# Altium footprint library Alt_git.PcbLib: 89 footprints (part 2 of 6)
Each footprint in its own frame and in the unit in brackets; x right, y up, seen from the top. Pads: shape width x height; smd on the part's side, far side on the other; paste and mask are expansions set on the pad; w line width, h text height; cw(c..) or ccw(c..) is an arc to the next point about the centre after c.
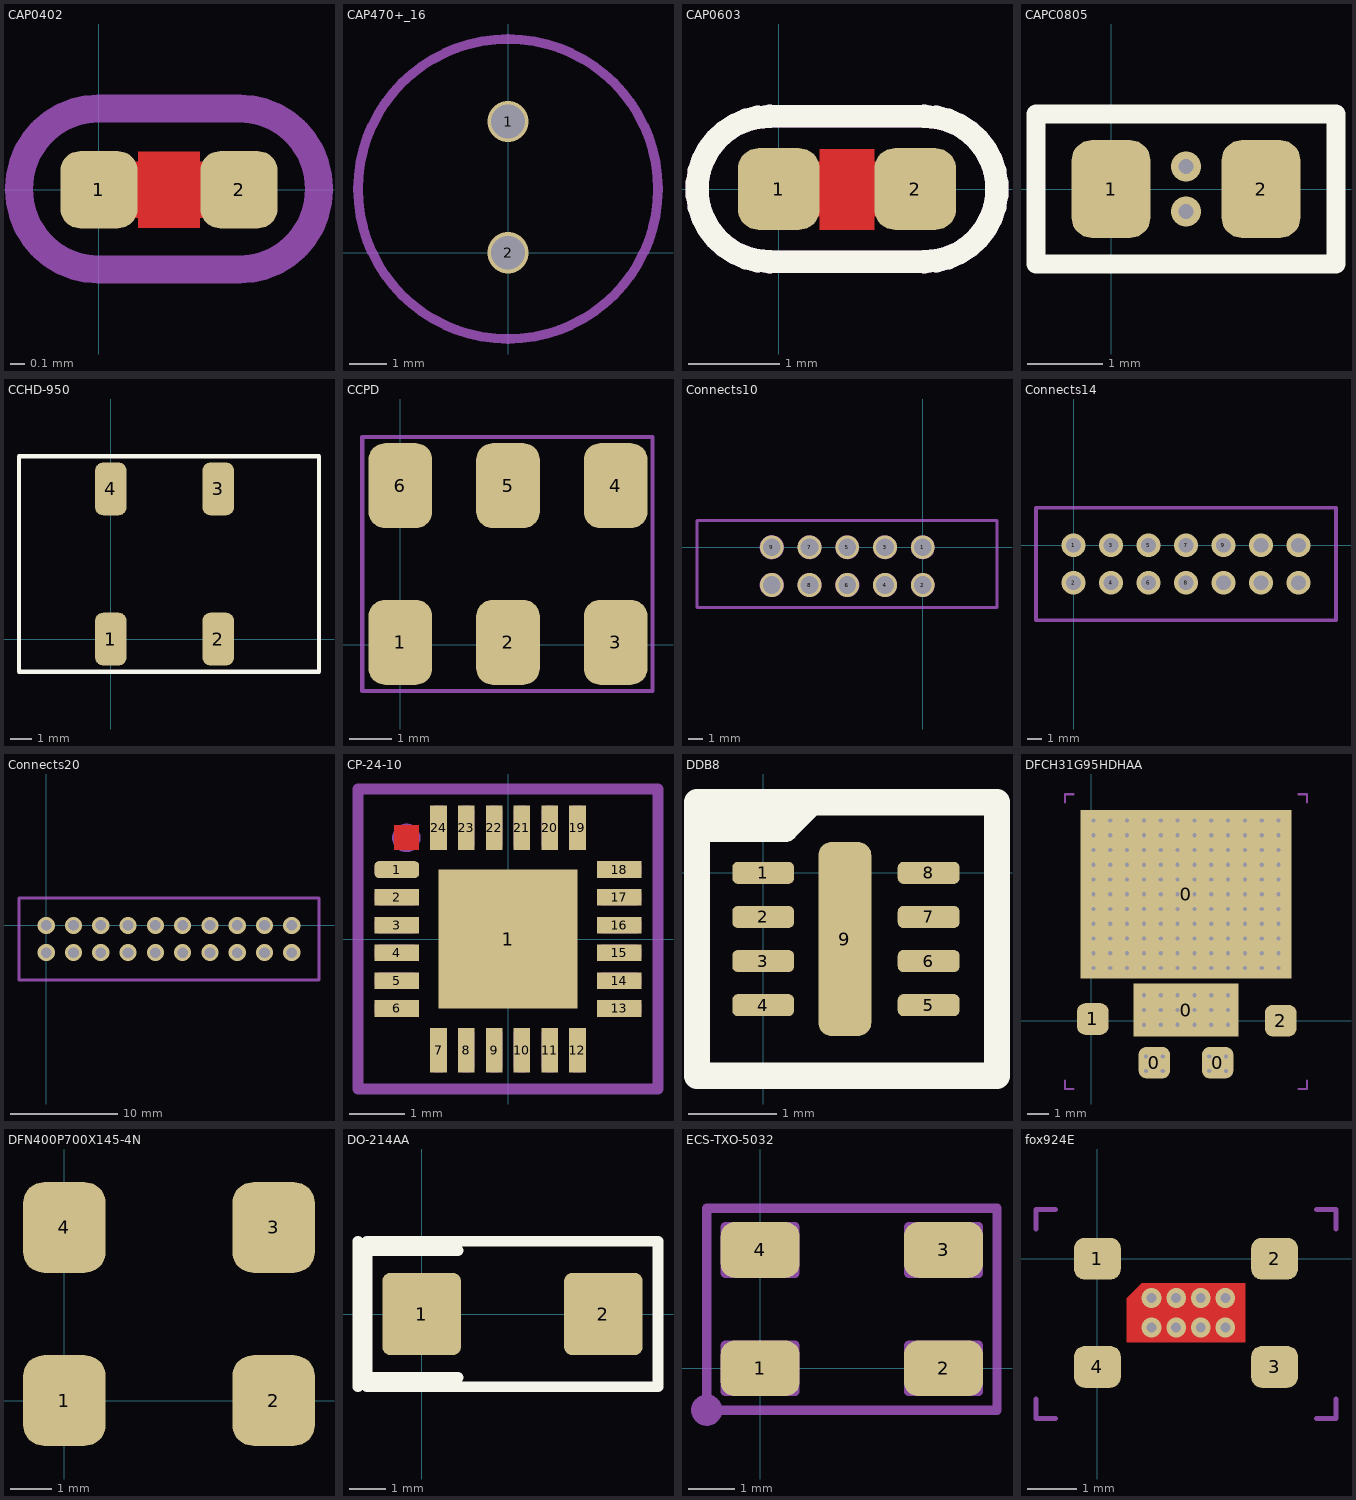
[diagram p1: the footprints below, top view; thin cyan lines are the x and y axes]

## CAP0402 [mm]
pads (2):
  rrect50% 0.55x0.55 smd paste+0: 1(0,0) 2(1,0)
Top Layer:
  pour cut-out: 0.85,0.2 0.13,0.2 0.13,-0.2 0.85,-0.2
  pour cut-out: 0.28,0.27 0.28,-0.27 0.72,-0.27 0.72,0.27
RES_top:
  lines w0.2: -0.57,0 ccw(c0,0) 0,-0.57 1,-0.57 ccw(c1,0) 1.57,0 ; -0.57,0.01 cw(c0,0.01) 0,0.58 1,0.58 cw(c1,0.01) 1.57,0.01

## CAP470+_16 [mm]
pads (2):
  rect 0.5x0.5 smd paste+0: 1(0,3.5) 2(0,0)
via 0,3.5 diameter 1.1 hole 0.9
via 0,0 diameter 1.1 hole 0.9
Mechanical 15:
  circle w0.254: c0,1.7 r4
3D body: height 9, standoff -1, extent -0.2,-2.161 14.55,5.841

## CAP0603 [mm]
pads (2):
  rrect50% 0.9x0.9 smd paste+0: 1(0,0) 2(1.5,0)
Top Layer:
  pour cut-out: 1.25,0.3 0.25,0.3 0.25,-0.3 1.25,-0.3
  pour cut-out: 0.45,0.44 0.45,-0.45 1.05,-0.45 1.05,0.44
Top Overlay:
  lines w0.25: -0.1,-0.8 1.6,-0.8 ; -0.1,0.8 1.6,0.8
  lines w0.254: -0.1,-0.8 cw(c-0.1,0) -0.1,0.8 ; 1.6,-0.8 ccw(c1.6,0) 1.6,0.8
CAP_top:
  lines w0.25: -0.1,-0.8 1.6,-0.8 ; -0.1,0.8 1.6,0.8
  lines w0.254: -0.1,-0.8 cw(c-0.1,0) -0.1,0.8 ; 1.6,-0.8 ccw(c1.6,0) 1.6,0.8

## CAPC0805 [mm]
pads (2):
  rrect50% 1.05x1.3 smd paste+0: 1(0,0) 2(2,0)
via 1,0.3 diameter 0.4 hole 0.2
via 1,-0.3 diameter 0.4 hole 0.2
Top Overlay:
  lines w0.254: -1,-1 -1,1 3,1 3,-1 -1,-1
3D body: height 1.7, standoff 0, extent -0.7,-0.9 2.7,0.9

## CCHD-950 [mm]
pads (4):
  rrect50% 1.5x2.5 smd: 1(0,0) 2(5.08,0) 3(5.08,7.11) 4(0,7.11)
Top Overlay:
  lines w0.2: -4.35,-1.55 -4.35,8.66 9.85,8.66 9.85,-1.55 -4.35,-1.55
3D body: height 5.4, standoff 0, extent -4.35,-1 9.85,8.14

## CCPD [mm]
pads (6):
  rrect50% 1.5x2 smd: 1(0,0.05) 2(2.54,0.05) 3(5.08,0.05) 4(5.08,3.75) 5(2.54,3.75) 6(0,3.75)
Mechanical 15:
  lines w0.1: -0.9,-1.1 5.95,-1.1 5.95,4.9 -0.9,4.9 -0.9,-1.1
3D body: height 2.2, standoff 0, extent -0.975,-0.6 6.025,4.4

## Connects10 [mm]
pads (10):
  rect 0.5x0.5 smd paste+0: 1(0,0) 2(0,-2.54) 3(-2.54,0) 4(-2.54,-2.54) 5(-5.08,0) 6(-5.08,-2.54) 7(-7.62,0) 8(-7.62,-2.54) 9(-10.16,0) 10(-10.16,-2.54)
via -10.16,0 diameter 1.6 hole 1.2
via -10.16,-2.54 diameter 1.6 hole 1.2
via -5.08,-2.54 diameter 1.6 hole 1.2
via -2.54,-2.54 diameter 1.6 hole 1.2
via 0,-2.54 diameter 1.6 hole 1.2
via -7.62,0 diameter 1.6 hole 1.2
via -7.62,-2.54 diameter 1.6 hole 1.2
via -2.54,0 diameter 1.6 hole 1.2
via -5.08,0 diameter 1.6 hole 1.2
via 0,0 diameter 1.6 hole 1.2
Top Paste:
  circle w0.2: c0,0 r0.7
  circle w0.2: c0,-2.54 r0.7
  circle w0.2: c-2.54,-2.54 r0.7
  circle w0.2: c-2.54,0 r0.7
  circle w0.2: c-5.08,0 r0.7
  circle w0.2: c-5.08,-2.54 r0.7
  circle w0.2: c-7.62,-2.54 r0.7
  circle w0.2: c-7.62,0 r0.7
  circle w0.2: c-10.16,0 r0.7
  circle w0.2: c-10.16,-2.54 r0.7
Bottom Paste:
  circle w0.2: c0,0 r0.7
  circle w0.2: c0,-2.54 r0.7
  circle w0.2: c-2.54,-2.54 r0.7
  circle w0.2: c-2.54,0 r0.7
  circle w0.2: c-5.08,0 r0.7
  circle w0.2: c-5.08,-2.54 r0.7
  circle w0.2: c-7.62,-2.54 r0.7
  circle w0.2: c-7.62,0 r0.7
  circle w0.2: c-10.16,0 r0.7
  circle w0.2: c-10.16,-2.54 r0.7
Connect:
  circle w0.254: c-7.62,-2.54 r0.68
  circle w0.254: c-5.08,-2.54 r0.69
  circle w0.254: c-2.54,-2.54 r0.69
  circle w0.254: c0,-2.54 r0.68
  circle w0.254: c-10.16,0 r0.69
  circle w0.254: c-7.62,0 r0.68
  circle w0.254: c-5.08,0 r0.68
  circle w0.254: c-2.54,0 r0.681
  circle w0.254: c0,0 r0.68
  circle w0.254: c-10.16,-2.54 r0.69
  lines w0.2: -15.19,-4.06 -15.19,1.81 4.99,1.81 4.99,-4.06 -15.19,-4.06
3D body: height 9.1, standoff -3.22, extent -15.27,-3.141 5.07,10.5

## Connects14 [mm]
pads (14):
  rect 0.5x0.5 smd paste+0: 1(0,0) 2(0,-2.54) 3(2.54,0) 4(2.54,-2.54) 5(5.08,0) 6(5.08,-2.54) 7(7.62,0) 8(7.62,-2.54) 9(10.16,0) 10(10.16,-2.54) 11(12.7,0) 12(12.7,-2.54) 13(15.24,0) 14(15.24,-2.54)
via 15.24,0 diameter 1.6 hole 1
via 15.24,-2.54 diameter 1.6 hole 1
via 0,0 diameter 1.6 hole 1
via 2.54,0 diameter 1.6 hole 1
via 5.08,0 diameter 1.6 hole 1
via 7.62,0 diameter 1.6 hole 1
via 10.16,0 diameter 1.6 hole 1
via 12.7,0 diameter 1.6 hole 1
via 12.7,-2.54 diameter 1.6 hole 1
via 10.16,-2.54 diameter 1.6 hole 1
via 7.62,-2.54 diameter 1.6 hole 1
via 5.08,-2.54 diameter 1.6 hole 1
via 2.54,-2.54 diameter 1.6 hole 1
via 0,-2.54 diameter 1.6 hole 1
Mechanical 15:
  lines w0.254: -2.54,-5.08 -2.54,2.54 17.78,2.54 17.78,-5.08 -2.54,-5.08
3D body: height 9.1, standoff 0, extent -5.24,-5.875 20.24,3.225

## Connects20 [mm]
pads (20):
  rect 0.5x0.5 smd paste+0: 1(0,0) 2(0,-2.54) 3(2.54,0) 4(2.54,-2.54) 5(5.08,0) 6(5.08,-2.54) 7(7.62,0) 8(7.62,-2.54) 9(10.16,0) 10(10.16,-2.54) 11(12.7,0) 12(12.7,-2.54) 13(15.24,0) 14(15.24,-2.54) 15(17.76,0) 16(17.76,-2.54) 17(20.3,0) 18(20.3,-2.54) 19(22.84,0) 20(22.86,-2.54)
via 0,-2.54 diameter 1.6 hole 1
via 0,0 diameter 1.6 hole 1
via 2.54,0 diameter 1.6 hole 1
via 2.54,-2.54 diameter 1.6 hole 1
via 5.08,-2.54 diameter 1.6 hole 1
via 5.08,0 diameter 1.6 hole 1
via 7.62,0 diameter 1.6 hole 1
via 7.62,-2.54 diameter 1.6 hole 1
via 10.16,-2.54 diameter 1.6 hole 1
via 10.16,0 diameter 1.6 hole 1
via 15.24,-2.54 diameter 1.6 hole 1
via 15.24,0 diameter 1.6 hole 1
via 17.78,0 diameter 1.6 hole 1
via 17.78,-2.54 diameter 1.6 hole 1
via 20.32,0 diameter 1.6 hole 1
via 22.86,0 diameter 1.6 hole 1
via 22.86,-2.54 diameter 1.6 hole 1
via 20.32,-2.54 diameter 1.6 hole 1
via 12.7,-2.54 diameter 1.6 hole 1
via 12.7,0 diameter 1.6 hole 1
Mechanical 15:
  lines w0.254: -2.54,-5.08 -2.54,2.54 25.4,2.54 25.4,-5.08 -2.54,-5.08
3D body: height 9.15, standoff 0, extent -5.005,-5.76 28.045,3.34

## CP-24-10 [mm]
pads (25):
  rrect50% 0.8x0.3 smd paste+0: 1(-2,1.25)
  rect 2.5x2.5 smd paste+0: 1(0,0)
  rect 0.8x0.3 smd paste+0: 2(-2,0.75) 3(-2,0.25) 4(-2,-0.25) 5(-2,-0.75) 6(-2,-1.25) 13(2,-1.25) 14(2,-0.75) 15(2,-0.25) 16(2,0.25) 17(2,0.75) 18(2,1.25)
  rect 0.3x0.8 smd paste+0: 7(-1.25,-2) 8(-0.75,-2) 9(-0.25,-2) 10(0.25,-2) 11(0.75,-2) 12(1.25,-2) 19(1.25,2) 20(0.75,2) 21(0.25,2) 22(-0.25,2) 23(-0.75,2) 24(-1.25,2)
Top Layer:
  rectangle: -2.05,1.6 -1.6,2.05
Mechanical 4:
  circle w0.254: c-1.83,1.82 r0.128
  lines w0.2: -2.01,-1.2 -2.3,-1.2 -2.3,-1.3 -1.7,-1.3 -1.7,-1.2 -1.99,-1.2 ; -2.01,-0.7 -2.3,-0.7 -2.3,-0.8 -1.7,-0.8 -1.7,-0.7 -1.99,-0.7 ; -2.01,-0.2 -2.3,-0.2 -2.3,-0.3 -1.7,-0.3 -1.7,-0.2 -1.99,-0.2 ; -2.01,0.3 -2.3,0.3 -2.3,0.2 -1.7,0.2 -1.7,0.3 -1.99,0.3 ; -2.01,0.8 -2.3,0.8 -2.3,0.7 -1.7,0.7 -1.7,0.8 -1.99,0.8 ; -2.01,1.3 -2.3,1.3 -2.3,1.2 -1.7,1.2 -1.7,1.3 -1.99,1.3 ; -1.3,-2.01 -1.3,-2.3 -1.2,-2.3 -1.2,-1.7 -1.3,-1.7 -1.3,-1.99 ; -1.3,1.99 -1.3,1.7 -1.2,1.7 -1.2,2.3 -1.3,2.3 -1.3,2.01 ; -0.8,-2.01 -0.8,-2.3 -0.7,-2.3 -0.7,-1.7 -0.8,-1.7 -0.8,-1.99 ; -0.8,1.99 -0.8,1.7 -0.7,1.7 -0.7,2.3 -0.8,2.3 -0.8,2.01 ; -0.3,-2.01 -0.3,-2.3 -0.2,-2.3 -0.2,-1.7 -0.3,-1.7 -0.3,-1.99 ; -0.3,1.99 -0.3,1.7 -0.2,1.7 -0.2,2.3 -0.3,2.3 -0.3,2.01 ; 0.2,-2.01 0.2,-2.3 0.3,-2.3 0.3,-1.7 0.2,-1.7 0.2,-1.99 ; 0.2,1.99 0.2,1.7 0.3,1.7 0.3,2.3 0.2,2.3 0.2,2.01 ; 0.7,-2.01 0.7,-2.3 0.8,-2.3 0.8,-1.7 0.7,-1.7 0.7,-1.99 ; 0.7,1.99 0.7,1.7 0.8,1.7 0.8,2.3 0.7,2.3 0.7,2.01 ; 1.2,-2.01 1.2,-2.3 1.3,-2.3 1.3,-1.7 1.2,-1.7 1.2,-1.99 ; 1.2,1.99 1.2,1.7 1.3,1.7 1.3,2.3 1.2,2.3 1.2,2.01 ; 1.99,-1.2 1.7,-1.2 1.7,-1.3 2.3,-1.3 2.3,-1.2 2.01,-1.2 ; 1.99,-0.7 1.7,-0.7 1.7,-0.8 2.3,-0.8 2.3,-0.7 2.01,-0.7 ; 1.99,-0.2 1.7,-0.2 1.7,-0.3 2.3,-0.3 2.3,-0.2 2.01,-0.2 ; 1.99,0.3 1.7,0.3 1.7,0.2 2.3,0.2 2.3,0.3 2.01,0.3 ; 1.99,0.8 1.7,0.8 1.7,0.7 2.3,0.7 2.3,0.8 2.01,0.8 ; 1.99,1.3 1.7,1.3 1.7,1.2 2.3,1.2 2.3,1.3 2.01,1.3 ; -2.7,-2.7 -2.7,2.7 2.7,2.7 2.7,-2.7 -2.7,-2.7
3D body: height 1, standoff 0, extent -2.71,-2.68 2.69,2.72

## DDB8 [mm]
height 1
pads (9):
  rrect50% 0.7x0.25 smd: 1(0,0) 2(0,-0.5) 3(0,-1) 4(0,-1.5) 5(1.875,-1.5) 6(1.875,-1) 7(1.875,-0.5) 8(1.875,0)
  rrect50% 0.6x2.2 smd: 9(0.925,-0.75)
Top Overlay:
  lines w0.3: -0.75,0.5 0.25,0.5 0.55,0.8 ; -0.75,-2.3 2.65,-2.3 2.65,0.8 -0.75,0.8 -0.75,-2.3
3D body: height 1, standoff 0, extent -0.15,-2.1 1.95,0.6

## DFCH31G95HDHAA [mm]
pads (6):
  rrect50% 1.5x1.5 smd paste+0: 0(3,-2) 0(6,-2) 1(0.075,0.075) 2(9,0)
  rect 5x2.5 smd paste+0: 0(4.5,0.5)
  rect 10x8 smd paste+0: 0(4.5,6)
via 3.4,-2.4 diameter 0.4 hole 0.2
via 2.6,-2.4 diameter 0.4 hole 0.2
via 2.6,-1.7 diameter 0.4 hole 0.2
via 3.4,-1.7 diameter 0.4 hole 0.2
via 5.6,-2.4 diameter 0.4 hole 0.2
via 6.4,-2.4 diameter 0.4 hole 0.2
via 6.4,-1.7 diameter 0.4 hole 0.2
via 5.6,-1.7 diameter 0.4 hole 0.2
via 8.9,2.5 diameter 0.4 hole 0.2
via 8.1,2.5 diameter 0.4 hole 0.2
via 7.3,2.5 diameter 0.4 hole 0.2
via 6.5,2.5 diameter 0.4 hole 0.2
via 5.7,2.5 diameter 0.4 hole 0.2
via 4.9,2.5 diameter 0.4 hole 0.2
via 4.1,2.5 diameter 0.4 hole 0.2
via 2.5,2.5 diameter 0.4 hole 0.2
via 3.3,2.5 diameter 0.4 hole 0.2
via 0.9,2.5 diameter 0.4 hole 0.2
via 1.7,2.5 diameter 0.4 hole 0.2
via 0.1,2.5 diameter 0.4 hole 0.2
via 8.9,3.2 diameter 0.4 hole 0.2
via 8.1,3.2 diameter 0.4 hole 0.2
via 7.3,3.2 diameter 0.4 hole 0.2
via 6.5,3.2 diameter 0.4 hole 0.2
via 5.7,3.2 diameter 0.4 hole 0.2
via 4.9,3.2 diameter 0.4 hole 0.2
via 4.1,3.2 diameter 0.4 hole 0.2
via 2.5,3.2 diameter 0.4 hole 0.2
via 3.3,3.2 diameter 0.4 hole 0.2
via 0.9,3.2 diameter 0.4 hole 0.2
via 1.7,3.2 diameter 0.4 hole 0.2
via 0.1,3.2 diameter 0.4 hole 0.2
via 8.9,3.9 diameter 0.4 hole 0.2
via 8.1,3.9 diameter 0.4 hole 0.2
via 7.3,3.9 diameter 0.4 hole 0.2
via 6.5,3.9 diameter 0.4 hole 0.2
via 5.7,3.9 diameter 0.4 hole 0.2
via 4.9,3.9 diameter 0.4 hole 0.2
via 4.1,3.9 diameter 0.4 hole 0.2
via 2.5,3.9 diameter 0.4 hole 0.2
via 3.3,3.9 diameter 0.4 hole 0.2
via 0.9,3.9 diameter 0.4 hole 0.2
via 1.7,3.9 diameter 0.4 hole 0.2
via 0.1,3.9 diameter 0.4 hole 0.2
via 8.9,4.6 diameter 0.4 hole 0.2
via 8.1,4.6 diameter 0.4 hole 0.2
via 7.3,4.6 diameter 0.4 hole 0.2
via 6.5,4.6 diameter 0.4 hole 0.2
via 5.7,4.6 diameter 0.4 hole 0.2
via 4.9,4.6 diameter 0.4 hole 0.2
via 4.1,4.6 diameter 0.4 hole 0.2
via 2.5,4.6 diameter 0.4 hole 0.2
via 3.3,4.6 diameter 0.4 hole 0.2
via 0.9,4.6 diameter 0.4 hole 0.2
via 1.7,4.6 diameter 0.4 hole 0.2
via 0.1,4.6 diameter 0.4 hole 0.2
via 8.9,5.3 diameter 0.4 hole 0.2
via 8.1,5.3 diameter 0.4 hole 0.2
via 7.3,5.3 diameter 0.4 hole 0.2
via 6.5,5.3 diameter 0.4 hole 0.2
via 5.7,5.3 diameter 0.4 hole 0.2
via 4.9,5.3 diameter 0.4 hole 0.2
via 4.1,5.3 diameter 0.4 hole 0.2
via 2.5,5.3 diameter 0.4 hole 0.2
via 3.3,5.3 diameter 0.4 hole 0.2
via 0.9,5.3 diameter 0.4 hole 0.2
via 1.7,5.3 diameter 0.4 hole 0.2
via 0.1,5.3 diameter 0.4 hole 0.2
via 8.9,6 diameter 0.4 hole 0.2
via 8.1,6 diameter 0.4 hole 0.2
via 7.3,6 diameter 0.4 hole 0.2
via 6.5,6 diameter 0.4 hole 0.2
via 5.7,6 diameter 0.4 hole 0.2
via 4.9,6 diameter 0.4 hole 0.2
via 4.1,6 diameter 0.4 hole 0.2
via 2.5,6 diameter 0.4 hole 0.2
via 3.3,6 diameter 0.4 hole 0.2
via 0.9,6 diameter 0.4 hole 0.2
via 1.7,6 diameter 0.4 hole 0.2
via 0.1,6 diameter 0.4 hole 0.2
via 8.9,6.7 diameter 0.4 hole 0.2
via 8.1,6.7 diameter 0.4 hole 0.2
via 7.3,6.7 diameter 0.4 hole 0.2
via 6.5,6.7 diameter 0.4 hole 0.2
via 5.7,6.7 diameter 0.4 hole 0.2
via 4.9,6.7 diameter 0.4 hole 0.2
via 4.1,6.7 diameter 0.4 hole 0.2
via 2.5,6.7 diameter 0.4 hole 0.2
via 3.3,6.7 diameter 0.4 hole 0.2
via 0.9,6.7 diameter 0.4 hole 0.2
via 1.7,6.7 diameter 0.4 hole 0.2
via 0.1,6.7 diameter 0.4 hole 0.2
via 8.9,7.4 diameter 0.4 hole 0.2
via 8.1,7.4 diameter 0.4 hole 0.2
via 7.3,7.4 diameter 0.4 hole 0.2
via 6.5,7.4 diameter 0.4 hole 0.2
via 5.7,7.4 diameter 0.4 hole 0.2
via 4.9,7.4 diameter 0.4 hole 0.2
via 4.1,7.4 diameter 0.4 hole 0.2
via 2.5,7.4 diameter 0.4 hole 0.2
via 3.3,7.4 diameter 0.4 hole 0.2
via 0.9,7.4 diameter 0.4 hole 0.2
via 1.7,7.4 diameter 0.4 hole 0.2
via 0.1,7.4 diameter 0.4 hole 0.2
via 8.9,8.1 diameter 0.4 hole 0.2
via 8.1,8.1 diameter 0.4 hole 0.2
via 7.3,8.1 diameter 0.4 hole 0.2
via 6.5,8.1 diameter 0.4 hole 0.2
via 5.7,8.1 diameter 0.4 hole 0.2
via 4.9,8.1 diameter 0.4 hole 0.2
via 4.1,8.1 diameter 0.4 hole 0.2
via 2.5,8.1 diameter 0.4 hole 0.2
via 3.3,8.1 diameter 0.4 hole 0.2
via 0.9,8.1 diameter 0.4 hole 0.2
via 1.7,8.1 diameter 0.4 hole 0.2
via 0.1,8.1 diameter 0.4 hole 0.2
via 8.9,8.8 diameter 0.4 hole 0.2
via 8.1,8.8 diameter 0.4 hole 0.2
via 7.3,8.8 diameter 0.4 hole 0.2
via 6.5,8.8 diameter 0.4 hole 0.2
via 5.7,8.8 diameter 0.4 hole 0.2
via 4.9,8.8 diameter 0.4 hole 0.2
via 4.1,8.8 diameter 0.4 hole 0.2
via 2.5,8.8 diameter 0.4 hole 0.2
via 3.3,8.8 diameter 0.4 hole 0.2
via 0.9,8.8 diameter 0.4 hole 0.2
via 1.7,8.8 diameter 0.4 hole 0.2
via 0.1,8.8 diameter 0.4 hole 0.2
via 0.1,9.5 diameter 0.4 hole 0.2
via 1.7,9.5 diameter 0.4 hole 0.2
via 0.9,9.5 diameter 0.4 hole 0.2
via 3.3,9.5 diameter 0.4 hole 0.2
via 2.5,9.5 diameter 0.4 hole 0.2
via 4.1,9.5 diameter 0.4 hole 0.2
via 4.9,9.5 diameter 0.4 hole 0.2
via 5.7,9.5 diameter 0.4 hole 0.2
via 6.5,9.5 diameter 0.4 hole 0.2
via 7.3,9.5 diameter 0.4 hole 0.2
via 8.1,9.5 diameter 0.4 hole 0.2
via 8.9,9.5 diameter 0.4 hole 0.2
via 2.5,1.2 diameter 0.4 hole 0.2
via 3.3,1.2 diameter 0.4 hole 0.2
via 4.1,1.2 diameter 0.4 hole 0.2
via 4.9,1.2 diameter 0.4 hole 0.2
via 5.7,1.2 diameter 0.4 hole 0.2
via 6.5,1.2 diameter 0.4 hole 0.2
via 2.5,0.5 diameter 0.4 hole 0.2
via 3.3,0.5 diameter 0.4 hole 0.2
via 4.1,0.5 diameter 0.4 hole 0.2
via 4.9,0.5 diameter 0.4 hole 0.2
via 5.7,0.5 diameter 0.4 hole 0.2
via 6.5,0.5 diameter 0.4 hole 0.2
via 2.5,-0.2 diameter 0.4 hole 0.2
via 3.3,-0.2 diameter 0.4 hole 0.2
via 4.1,-0.2 diameter 0.4 hole 0.2
via 4.9,-0.2 diameter 0.4 hole 0.2
via 5.7,-0.2 diameter 0.4 hole 0.2
via 6.5,-0.2 diameter 0.4 hole 0.2
Mechanical 15:
  lines w0.1: -1.25,-2.85 -1.25,-3.25 -0.85,-3.25 ; -1.25,10.35 -1.25,10.75 -0.85,10.75 ; 9.85,-3.25 10.25,-3.25 10.25,-2.85 ; 9.85,10.75 10.25,10.75 10.25,10.35
3D body: height 3, standoff 0, extent -1.059,-3.02 9.941,10.48

## DFN400P700X145-4N [mm]
pads (4):
  rrect50% 2x2.2 smd: 1(0,0) 2(5.08,0) 3(5.08,4.2) 4(0,4.2)

## DO-214AA [mm]
height 2.5
pads (2):
  rrect20% 2.16x2.26 smd: 1(0,0) 2(5,0)
Top Overlay:
  lines w0.3: -1.75,-2 -1.75,2 ; -1.75,-1.75 1,-1.75 ; -1.5,1.75 1,1.75 ; -1.5,-2 6.5,-2 6.5,2 -1.5,2 -1.5,-2

## ECS-TXO-5032 [mm]
pads (4):
  rrect50% 1.7x1.2 smd paste+0: 1(0,0) 2(3.95,0) 3(3.95,2.55) 4(0,2.55)
Mechanical 4:
  circle w0.254: c-1.15,-0.9 r0.21
  lines w0.2: -1.15,-0.9 5.1,-0.9 5.1,3.45 -1.15,3.45 -1.15,-0.9 ; -0.75,-0.5 -0.75,0.5 0,0.5 0.75,0.5 0.75,-0.5 -0.75,-0.5 ; -0.75,2.05 0.75,2.05 0.75,3.05 0,3.05 -0.75,3.05 -0.75,2.05 ; 3.2,-0.5 4.7,-0.5 4.7,0.5 3.95,0.5 3.2,0.5 3.2,-0.5 ; 3.2,2.05 4.7,2.05 4.7,3.05 3.95,3.05 3.2,3.05 3.2,2.05
3D body: height 1, standoff 0, extent -0.52,-0.19 4.48,2.81

## fox924E [mm]
pads (4):
  rrect50% 0.95x0.85 smd paste+0: 1(0,0) 2(3.6,0) 3(3.6,-2.2) 4(0,-2.2)
via 2.6,-1.4 diameter 0.4 hole 0.2
via 1.1,-1.4 diameter 0.4 hole 0.2
via 1.6,-1.4 diameter 0.4 hole 0.2
via 2.1,-1.4 diameter 0.4 hole 0.2
via 1.1,-0.8 diameter 0.4 hole 0.2
via 1.6,-0.8 diameter 0.4 hole 0.2
via 2.1,-0.8 diameter 0.4 hole 0.2
via 2.6,-0.8 diameter 0.4 hole 0.2
Top Layer:
  region: 3,-1.7 3,-0.5 0.9,-0.5 0.6,-0.8 0.6,-1.7
Mechanical 15:
  lines w0.1: -1.25,-2.85 -1.25,-3.25 -0.85,-3.25 ; -1.25,0.6 -1.25,1 -0.85,1 ; 4.45,-3.25 4.85,-3.25 4.85,-2.85 ; 4.45,1 4.85,1 4.85,0.6
3D body: height 1.5, standoff 0, extent -0.7,-2.7 4.3,0.5